# EAGLE library part IRF7309 (library zkseagle)
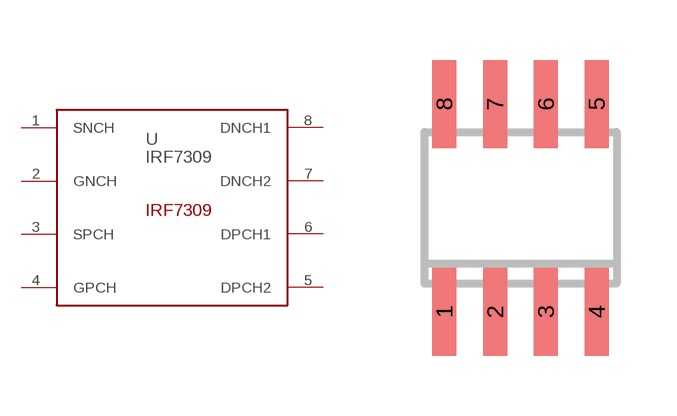
[diagram p23: symbol with the pads of SO08; footprint SO08]

Designator prefix -

## IRF7309  [SO08]
1  SNCH
2  GNCH
3  SPCH  in
4  GPCH
5  DPCH2
6  DPCH1
7  DNCH2
8  DNCH1

## Footprint SO08 (pad centres in mm)
Small Outline Package 8 NS Package M08A
smd 0.6 x 2.2: 1 -1.905,-2.6; 2 -0.635,-2.6; 3 0.635,-2.6; 4 1.905,-2.6; 5 1.905,2.6; 6 0.635,2.6; 7 -0.635,2.6; 8 -1.905,2.6